# Altium integrated library VH396-06S-010.IntLib: 1 symbol
Pins are listed as number, name and electrical type; pins without a type are passive.

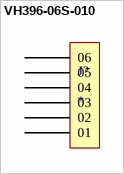
[diagram p0: symbol VH396-06S-010]

## VH396-06S-010
designator J?
VH396 - Valcon 3.96mm 5A Wire-to-Board Straight Locking Power Connector; MP: VH396-06S-010; Value: *; MF: Valcon; Price: None; Package: None; Check_prices: https://www.snapeda.com/parts/VH396-06S-010/Valcon/view-part/?ref=eda; Availability: In Stock; SnapEDA_Link: https://www.snapeda.com/parts/VH396-06S-010/Valcon/view-part/?ref=snap; Purchase-URL: https://pricing.snapeda.com/search/part/VH396-06S-010/?ref=eda
footprint VALCON_VH396-06S-010
pins: 01, 02, 03, 04, 05, 06